# Altium schematic symbol library MIC.SchLib: 1 symbol
Pins are listed as number, name and electrical type; pins without a type are passive.

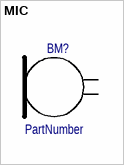
[diagram p0: symbol MIC]

## MIC
designator BM?  (value not drawn)
Microphone symbol; PartNumber: PartNumber
pins: 1, 2